# EAGLE library part IMP803 (library IC)
High-Voltage EL Lamp Driver
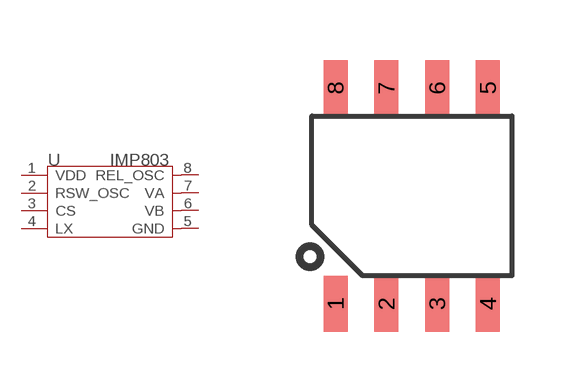
[diagram p62: symbol with the pads of SOIC8-6.0; footprint SOIC8-6.0]

Designator prefix U

## IMP803LG  [SOIC8-6.0]
1  VDD  sup
2  RSW_OSC
3  CS
4  LX
5  GND  sup
6  VB
7  VA
8  REL_OSC

## Footprint SOIC8-6.0 (pad centres in mm)
smd 0.6 x 1.4: 1 -1.905,-2.7; 2 -0.635,-2.7; 3 0.635,-2.7; 4 1.905,-2.7; 5 1.905,2.7; 6 0.635,2.7; 7 -0.635,2.7; 8 -1.905,2.7